# EAGLE library part MCP2515 (library JLB6_Processor)
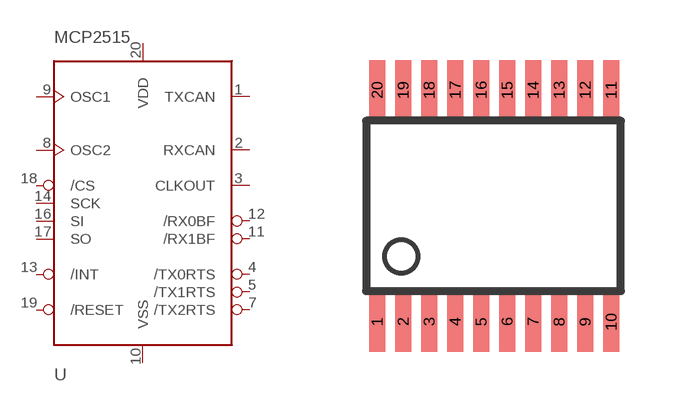
[diagram p2: symbol with the pads of TSSOP20; footprint TSSOP20]

Designator prefix U

## MCP2515  [TSSOP20]
1  TXCAN  out
2  RXCAN  in
3  CLKOUT  out
4  /TX0RTS  in
5  /TX1RTS  in
7  /TX2RTS  in
8  OSC2  out
9  OSC1  in
10  VSS  pwr
11  /RX1BF  out
12  /RX0BF  out
13  /INT  out
14  SCK  in
16  SI  in
17  SO  out
18  /CS  in
19  /RESET  in
20  VDD  pwr

## Footprint TSSOP20 (pad centres in mm)
smd 0.4 x 1.5: 1 -2.925,-2.9; 2 -2.275,-2.9; 3 -1.625,-2.9; 4 -0.975,-2.9; 5 -0.325,-2.9; 6 0.325,-2.9; 7 0.975,-2.9; 8 1.625,-2.9; 9 2.275,-2.9; 10 2.925,-2.9; 11 2.925,2.9; 12 2.275,2.9; 13 1.625,2.9; 14 0.975,2.9; 15 0.325,2.9; 16 -0.325,2.9; 17 -0.975,2.9; 18 -1.625,2.9; 19 -2.275,2.9; 20 -2.925,2.9